# EAGLE library part LT8612 (library common)
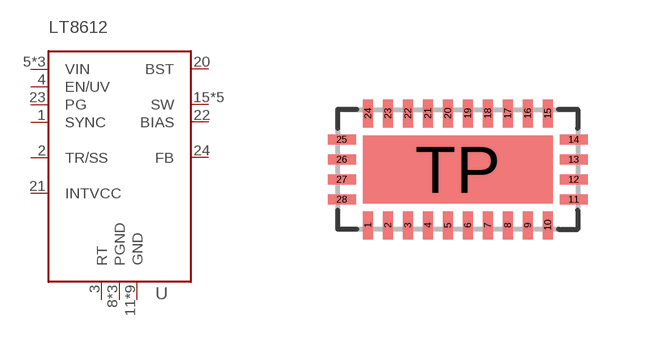
[diagram p34: symbol with the pads of UDE-3X6; footprint UDE-3X6]

Designator prefix U

## LT8612  [UDE-3X6]
1  SYNC
2  TR/SS
3  RT
4  EN/UV
5  VIN
6  VIN
7  VIN
8  PGND
9  PGND
10  PGND
11  GND
12  GND
13  GND
14  GND
15  SW
16  SW
17  SW
18  SW
19  SW
20  BST
21  INTVCC
22  BIAS
23  PG
24  FB
25  GND
26  GND
27  GND
28  GND
TP  GND

## Footprint UDE-3X6 (pad centres in mm)
smd 0.25 x 0.7: 1 -2.25,-1.4; 2 -1.75,-1.4; 3 -1.25,-1.4; 4 -0.75,-1.4; 5 -0.25,-1.4; 6 0.25,-1.4; 7 0.75,-1.4; 8 1.25,-1.4; 9 1.75,-1.4; 10 2.25,-1.4; 15 2.25,1.4; 16 1.75,1.4; 17 1.25,1.4; 18 0.75,1.4; 19 0.25,1.4; 20 -0.25,1.4; 21 -0.75,1.4; 22 -1.25,1.4; 23 -1.75,1.4; 24 -2.25,1.4
smd 0.7 x 0.25: 11 2.9,-0.75; 12 2.9,-0.25; 13 2.9,0.25; 14 2.9,0.75; 25 -2.9,0.75; 26 -2.9,0.25; 27 -2.9,-0.25; 28 -2.9,-0.75
smd 4.75 x 1.7: TP 0,0